# EAGLE library part STECKER_SV50/6 (library 1A-meinLib)
Lumberg Rundsteckverbinder mit Schraubverschluß DIN 45 321 5pol.
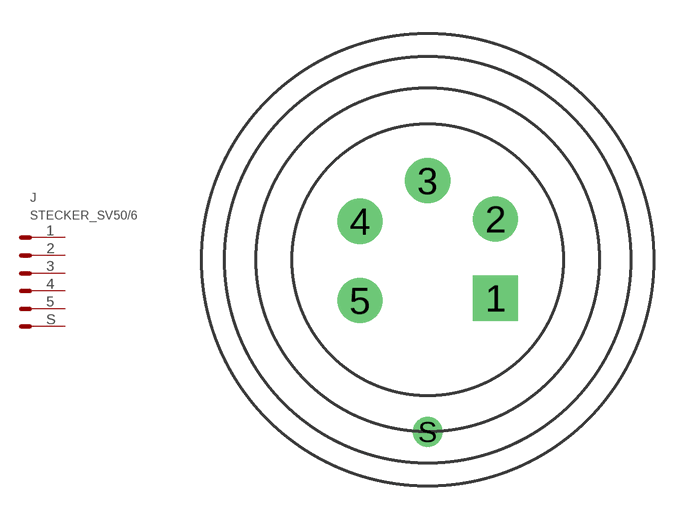
[diagram p273: symbol with the pads of STECKER-SV50/6; footprint STECKER-SV50/6]

Designator prefix J

## STECKER_SV50/6  [STECKER-SV50/6]
1  1  pas
2  2  pas
3  3  pas
4  4  pas
5  5  pas
S  S  pas

## Footprint STECKER-SV50/6 (pad centres in mm)
drill 1 pad 2 square: 1 3,-1.7
drill 1 pad 2 round: 2 3,1.8; 3 0,3.5; 4 -3,1.7; 5 -3,-1.8
drill 0.8 round: S 0,-7.62